# EAGLE library part WIZFI310 (library WIZnet)
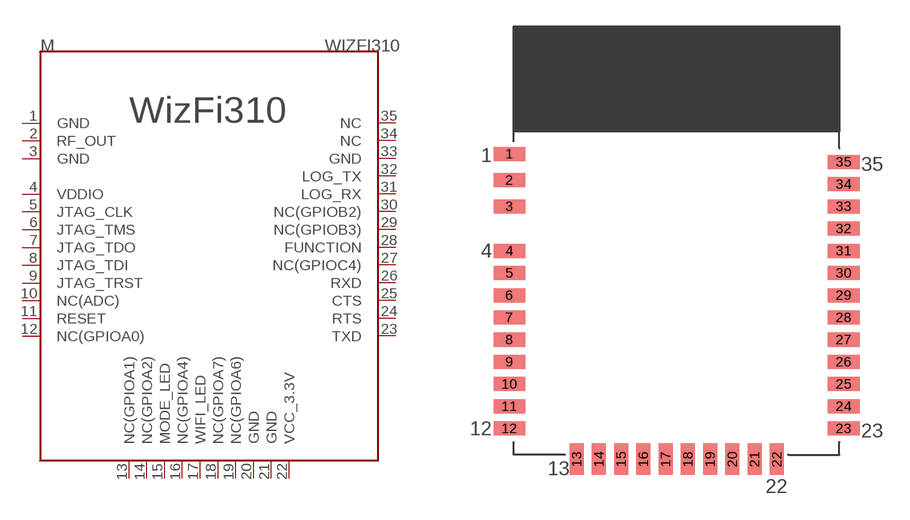
[diagram p10: symbol with the pads of WIZFI310; footprint WIZFI310]

Designator prefix M

## WIZFI310  [WIZFI310]
1  GND
2  RF_OUT
3  GND
4  VDDIO
5  JTAG_CLK
6  JTAG_TMS
7  JTAG_TDO
8  JTAG_TDI
9  JTAG_TRST
10  NC(ADC)
11  RESET
12  NC(GPIOA0)
13  NC(GPIOA1)
14  NC(GPIOA2)
15  MODE_LED
16  NC(GPIOA4)
17  WIFI_LED
18  NC(GPIOA7)
19  NC(GPIOA6)
20  GND
21  GND
22  VCC_3.3V
23  TXD
24  RTS
25  CTS
26  RXD
27  NC(GPIOC4)
28  FUNCTION
29  NC(GPIOB3)
30  NC(GPIOB2)
31  LOG_RX
32  LOG_TX
33  GND
34  NC
35  NC

## Footprint WIZFI310 (pad centres in mm)
smd 1.8 x 0.8: 1 -9.55,-1.3; 2 -9.55,-2.8; 3 -9.55,-4.3; 4 -9.55,-6.84; 5 -9.55,-8.11; 6 -9.55,-9.38; 7 -9.55,-10.65; 8 -9.55,-11.92; 9 -9.55,-13.19; 10 -9.55,-14.46; 11 -9.55,-15.73; 12 -9.55,-17; 23 9.55,-17; 24 9.55,-15.73; 25 9.55,-14.46; 26 9.55,-13.19; 27 9.55,-11.92; 28 9.55,-10.65; 29 9.55,-9.38; 30 9.55,-8.11; 31 9.55,-6.84; 32 9.55,-5.57; 33 9.55,-4.3; 34 9.55,-3.03; 35 9.55,-1.76
smd 0.8 x 1.8: 13 -5.7,-18.75; 14 -4.43,-18.75; 15 -3.16,-18.75; 16 -1.89,-18.75; 17 -0.62,-18.75; 18 0.65,-18.75; 19 1.92,-18.75; 20 3.19,-18.75; 21 4.46,-18.75; 22 5.73,-18.75